# Altium schematic symbol library special.SCHLIB: 27 symbols
Pins are listed as number, name and electrical type; pins without a type are passive.

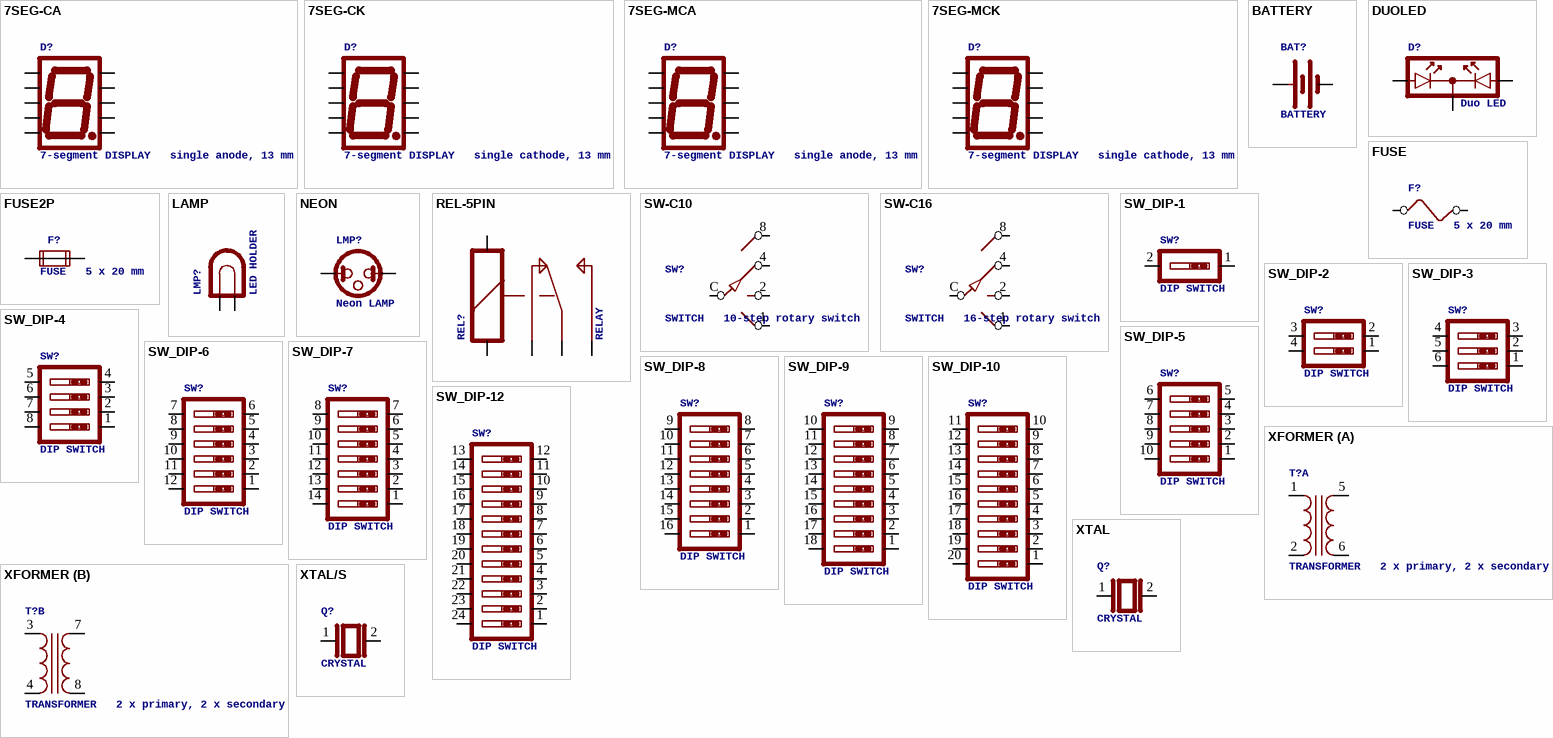
[diagram p0: symbols 7SEG-CA to XTAL/S]

## 7SEG-CA
designator D?, comment 7-segment DISPLAY   single anode, 13 mm
footprint 7SEG-13
pins: 1 E, 2 D, 3 CA1, 4 C, 5 DP, 6 B, 7 A, 8 CA2, 9 F, 10 G

## 7SEG-CK
designator D?, comment 7-segment DISPLAY   single cathode, 13 mm
footprint 7SEG-13
pins: 1 E, 2 D, 3 CK1, 4 C, 5 DP, 6 B, 7 A, 8 CK2, 9 F, 10 G

## 7SEG-MCA
designator D?, comment 7-segment DISPLAY   single anode, 13 mm
footprint 7SEG-7
pins: 1 CA1, 2 F, 3 G, 4 E, 5 D, 6 CA2, 7 DP, 8 C, 9 B, 10 A

## 7SEG-MCK
designator D?, comment 7-segment DISPLAY   single cathode, 13 mm
footprint 7SEG-7
pins: 1 CK1, 2 F, 3 G, 4 E, 5 D, 6 CK2, 7 DP, 8 C, 9 B, 10 A

## BATTERY
designator BAT?
footprint BATTERY
pins: + (power), +@1 (power), - (power)

## DUOLED
designator D?, comment Duo LED
footprint DUOLED
pins: A1, A2, K

## FUSE
designator F?, comment FUSE   5 x 20 mm
footprint FUSE
pins: 1, 2

## FUSE2P
designator F?, comment FUSE   5 x 20 mm
footprint FUSE1
pins: 1A, 1B, 2A, 2B

## LAMP
designator LMP?, comment LED HOLDER
footprint LDH-5R
pins: 1, 2

## NEON
designator LMP?, comment Neon LAMP
footprint LDH-3R
pins: 1, 2

## REL-5PIN
designator REL?, comment RELAY
footprint REL-5PIN
pins: C, O, S, S1, S2

## SW-C10
designator SW?, comment SWITCH   10-step rotary switch
footprint SW-C10
pins: 1, 2, 4, 8, C

## SW-C16
designator SW?, comment SWITCH   16-step rotary switch
footprint SW-C16
pins: 1, 2, 4, 8, C

## SW_DIP-1
designator SW?, comment DIP SWITCH
footprint EDG-01
pins: 1, 2

## SW_DIP-2
designator SW?, comment DIP SWITCH
footprint EDG-02
pins: 1, 2, 3, 4

## SW_DIP-3
designator SW?, comment DIP SWITCH
footprint EDG-03
pins: 1, 2, 3, 4, 5, 6

## SW_DIP-4
designator SW?, comment DIP SWITCH
footprint EDG-04
pins: 1, 2, 3, 4, 5, 6, 7, 8

## SW_DIP-5
designator SW?, comment DIP SWITCH
footprint EDG-05
pins: 1, 2, 3, 4, 5, 6, 7, 8, 9, 10

## SW_DIP-6
designator SW?, comment DIP SWITCH
footprint EDG-06
pins: 1, 2, 3, 4, 5, 6, 7, 8, 9, 10, 11, 12

## SW_DIP-7
designator SW?, comment DIP SWITCH
footprint EDG-07
pins: 1, 2, 3, 4, 5, 6, 7, 8, 9, 10, 11, 12, 13, 14

## SW_DIP-8
designator SW?, comment DIP SWITCH
footprint EDG-08
pins: 1, 2, 3, 4, 5, 6, 7, 8, 9, 10, 11, 12, 13, 14, 15, 16

## SW_DIP-9
designator SW?, comment DIP SWITCH
footprint EDG-09
pins: 1, 2, 3, 4, 5, 6, 7, 8, 9, 10, 11, 12, 13, 14, 15, 16, 17, 18

## SW_DIP-10
designator SW?, comment DIP SWITCH
footprint EDG-10
pins: 1, 2, 3, 4, 5, 6, 7, 8, 9, 10, 11, 12, 13, 14, 15, 16, 17, 18, 19, 20

## SW_DIP-12
designator SW?, comment DIP SWITCH
footprint EDG-12
pins: 1, 2, 3, 4, 5, 6, 7, 8, 9, 10, 11, 12, 13, 14, 15, 16, 17, 18, 19, 20, 21, 22, 23, 24

## XFORMER
designator T?, comment TRANSFORMER   2 x primary, 2 x secondary
footprint T70-E
part A pins: 1 P1, 2 P2, 5 S1, 6 S2
part B pins: 3 P1, 4 P2, 7 S1, 8 S2

## XTAL
designator Q?, comment CRYSTAL
footprint Q
pins: 1, 2

## XTAL/S
designator Q?, comment CRYSTAL
footprint QS
pins: 1, 2